# EAGLE library part NOKIA3310 (library cruz_technologies)
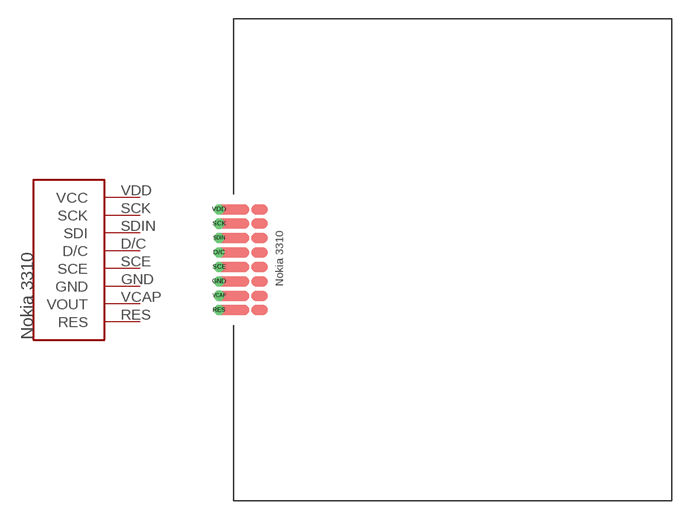
[diagram p1: symbol with the pads of NOKIA3310LCD; footprint NOKIA3310LCD]

Designator prefix -

## NOKIA3310  [NOKIA3310LCD]
D/C  D/C
GND  GND  pwr
RES  RES
SCE  SCE
SCK  SCK
SDIN  SDI
VCAP  VOUT  sup
VDD  VCC  pwr

## Footprint NOKIA3310LCD (pad centres in mm)
drill 0.3: D/C -1.15,0.575; GND -1.15,-1.725; RES -1.15,-4.025; SCE -1.15,-0.575; SCK -1.15,2.875; SDIN -1.15,1.725; VCAP -1.15,-2.875; VDD -1.15,4.025